# Altium footprint library резисторы.PcbLib: 27 footprints (part 1 of 2)
Each footprint in its own frame and in the unit in brackets; x right, y up, seen from the top. Pads: shape width x height; smd on the part's side, far side on the other; paste and mask are expansions set on the pad; w line width, h text height; cw(c..) or ccw(c..) is an arc to the next point about the centre after c.
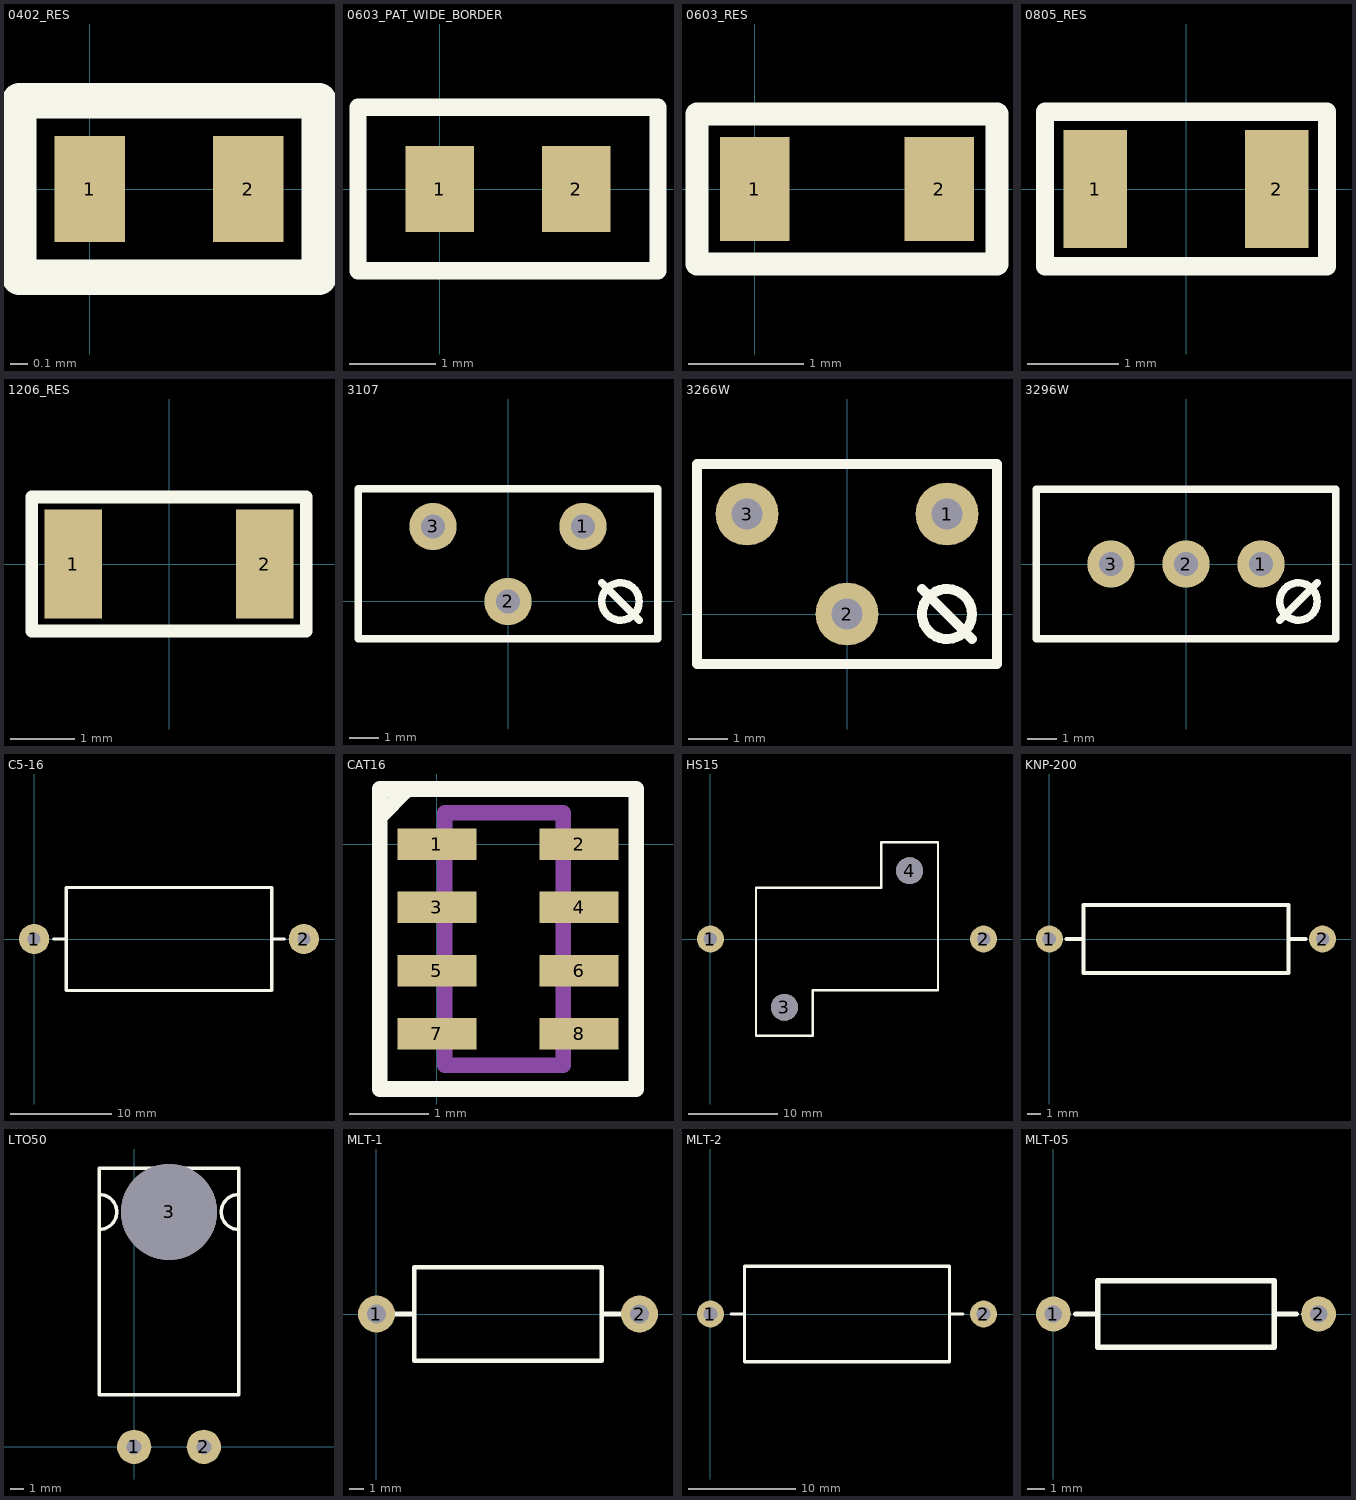
[diagram p0: the footprints below, top view; thin cyan lines are the x and y axes]

## 0402_RES [mm] "Резистор 0402(1005)"
height 0.35
pads (2):
  rect 0.4x0.6 smd mask+0.025: 1(0,0) 2(0.9,0)
Top Overlay:
  lines w0.2: -0.4,-0.5 -0.4,0.5 1.3,0.5 1.3,-0.5 -0.4,-0.5
3D body "User Library-RESC1005X04N.SLDPRT": height 0.35, standoff 0, extent -0.05,-0.25 0.95,0.25

## 0603_PAT_WIDE_BORDER [mm]
pads (2):
  rect 0.8x1 smd: 1(0,0) 2(1.587,0)
Top Overlay:
  lines w0.2: -0.953,-0.953 2.54,-0.953 2.54,0.953 -0.953,0.953 -0.953,-0.953

## 0603_RES [mm] "Резистор 0603(1608)"
height 0.45
pads (2):
  rect 0.6x0.9 smd mask+0.025: 1(0,0) 2(1.6,0)
Top Overlay:
  lines w0.2: -0.5,-0.65 -0.5,0.65 2.1,0.65 2.1,-0.65 -0.5,-0.65
3D body "User Library-RES_1609-0603.SLDPRT": height 0.56, standoff 0, extent -0.05,-0.4 1.65,0.4

## 0805_RES [mm] "Резистор 0805(2012)"
height 0.5
pads (2):
  rect 0.7x1.3 smd mask+0.025: 1(-1,0) 2(1,0)
Top Overlay:
  lines w0.2: -1.55,-0.85 1.55,-0.85 1.55,0.85 -1.55,0.85 -1.55,-0.85
3D body "User Library-RESC2012X05N.SLDPRT": height 0.45, standoff 0, extent -1,-0.625 1,0.625

## 1206_RES [mm] "Резистор 1206(3216)"
height 0.55
pads (2):
  rect 0.9x1.7 smd mask+0.025: 1(-1.5,0) 2(1.5,0)
Top Overlay:
  lines w0.2: -2.15,-1.05 2.15,-1.05 2.15,1.05 -2.15,1.05 -2.15,-1.05
3D body "User Library-RESC3216X06N.SLDPRT": height 0.55, standoff 0, extent -1.6,-0.8 1.6,0.8

## 3107 [mm]
pads (3):
  round 1.6 hole 0.8: 1(2.54,2.54) 2(0,0) 3(-2.54,2.54)
Top Overlay:
  circle w0.254: c3.81,0 r0.635
  lines w0.254: 3.175,0.635 4.445,-0.635 ; -5.08,-1.27 5.08,-1.27 5.08,3.81 -5.08,3.81 -5.08,-1.27

## 3266W [mm]
pads (3):
  round 1.6 hole 0.8: 1(2.54,2.54) 2(0,0) 3(-2.54,2.54)
Top Overlay:
  circle w0.254: c2.54,0 r0.635
  lines w0.254: 1.905,0.635 3.175,-0.635 ; -3.81,-1.27 3.81,-1.27 3.81,3.81 -3.81,3.81 -3.81,-1.27

## 3296W [mm]
pads (3):
  round 1.6 hole 0.8: 1(2.54,0) 2(0,0) 3(-2.54,0)
Top Overlay:
  circle w0.254: c3.81,-1.27 r0.635
  lines w0.254: 3.175,-1.905 4.445,-0.635 ; -5.08,-2.54 -5.08,2.54 5.08,2.54 5.08,-2.54 -5.08,-2.54

## C5-16 [mm]
pads (2):
  round 3 hole 1.3: 1(0,0) 2(26.67,0)
Top Overlay:
  lines w0.305: 1.905,0 3.175,0 ; 23.495,0 24.765,0 ; 3.175,-5.08 23.495,-5.08 23.495,5.08 3.175,5.08 3.175,-5.08

## CAT16 [mm]
pads (8):
  rect 1x0.4 smd mask+0.025: 1(0,0) 2(1.8,0) 3(0,-0.8) 4(1.8,-0.8) 5(0,-1.6) 6(1.8,-1.6) 7(0,-2.4) 8(1.8,-2.4)
Top Overlay:
  lines w0.2: -0.7,0.375 -0.4,0.675 ; -0.725,-3.1 -0.725,0.7 2.525,0.7 2.525,-3.1 -0.725,-3.1
Mechanical 2:
  lines w0.2: 0.1,-2.8 0.1,0.4 1.6,0.4 1.6,-2.8 0.1,-2.8
3D body "User Library-Array-1206-4Way-Var1.STEP": height 0.5, standoff 0, extent 0.1,-2.8 1.7,0.4

## HS15 [mm]
pads (4):
  round 3 hole 1.5: 1(0,0) 2(30.48,0)
  round 3 hole 3: 3(8.255,-7.62) 4(22.225,7.62)
Top Overlay:
  lines w0.254: 5.08,-10.795 11.43,-10.795 11.43,-5.715 25.4,-5.715 25.4,10.795 19.05,10.795 19.05,5.715 5.08,5.715 5.08,-10.795

## KNP-200 [mm]
pads (2):
  round 2 hole 1: 1(0,0) 2(20.32,0)
Top Overlay:
  lines w0.305: 1.27,0 2.54,0 ; 17.78,0 19.05,0 ; 2.54,-2.54 17.78,-2.54 17.78,2.54 2.54,2.54 2.54,-2.54

## LTO50 [mm]
pads (3):
  round 2.5 hole 1.1: 1(0,0) 2(5.08,0)
  round 7 hole 7: 3(2.54,17.145)
Top Overlay:
  lines w0.254: -2.54,15.875 ccw(c-2.54,17.145) -2.54,18.415 ; 7.62,15.875 cw(c7.62,17.145) 7.62,18.415 ; -2.54,3.81 7.62,3.81 7.62,20.32 -2.54,20.32 -2.54,3.81

## MLT-1 [mm]
pads (2):
  round 2.5 hole 1.3: 1(0,0) 2(17.78,0)
Top Overlay:
  lines w0.305: 1.27,0 2.54,0 ; 15.24,0 16.51,0 ; 2.54,-3.175 15.24,-3.175 15.24,3.175 2.54,3.175 2.54,-3.175

## MLT-2 [mm]
pads (2):
  round 2.5 hole 1.3: 1(0,0) 2(25.4,0)
Top Overlay:
  lines w0.305: 1.905,0 3.175,0 ; 22.225,0 23.495,0 ; 3.175,-4.445 22.225,-4.445 22.225,4.445 3.175,4.445 3.175,-4.445

## MLT-05 [mm]
pads (2):
  round 2 hole 1: 1(0,0) 2(15.24,0)
Top Overlay:
  lines w0.305: 1.27,0 2.54,0 ; 12.7,0 13.97,0 ; 2.54,-1.905 2.54,1.905 12.7,1.905 12.7,-1.905 2.54,-1.905